# Altium integrated library Linear Technology Operational Amplifiers (LT2000-LT6000).IntLib: 1710 symbols (part 36 of 75)
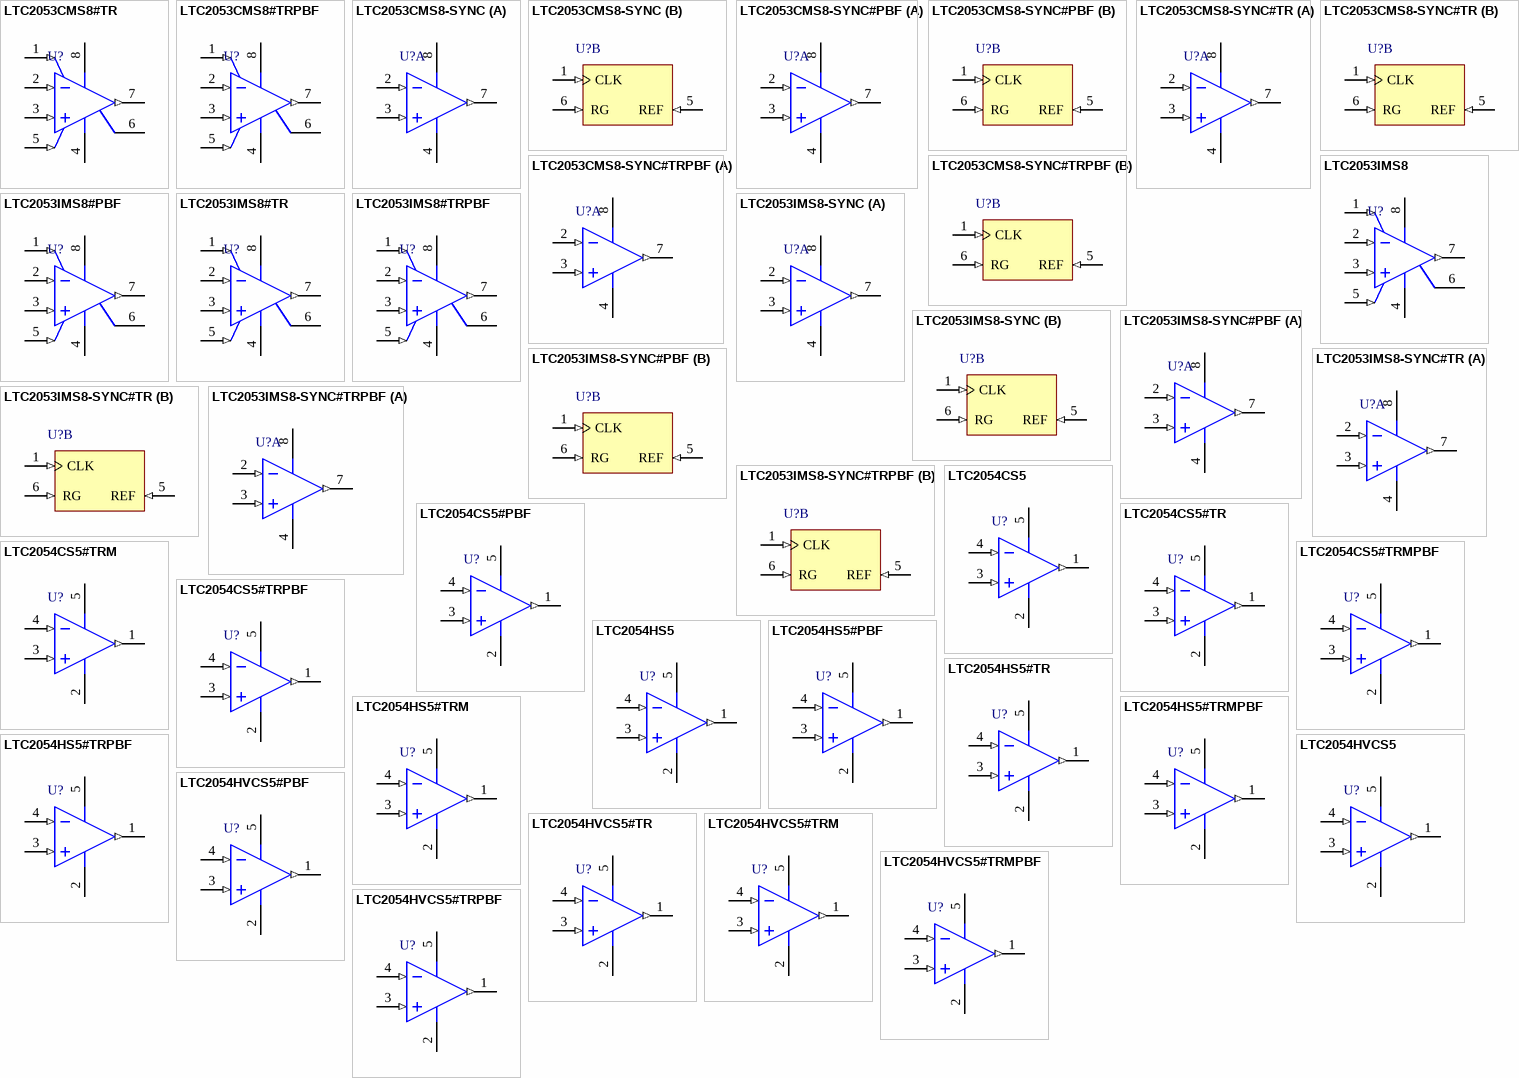
[diagram p115: symbols LTC2053CMS8#TR to LTC2054HVCS5#TRPBF]

## LTC2053IMS8#TRPBF
designator U?
Single Channel, Precision, Rail-to-Rail, Zero-Drift, Resistor-Programmable Instrumentation Amplifier, 0.2 MHz Typical GBW, 0.2 V/us Typical SR, 2.7 to 11 V, 8-Pin SOP (MS8-8), Industrial, Pb-Free, Reel; Linear Technology Part Number: LTC2053; Manufacturer: Linear Technology; PartNumber: LTC2053IMS8#TRPBF; Channels (#): 1; GBW (MHz) Typical: 0.2; Is (mA) Typical: 0.95; Vos (mV) Typical: 0.005; Vs Max (V): 11; Vs Min (V): 2.7; DatasheetVersion: Rev. C; PackageVersion: Rev G; PackageReference: LT-MS8-8; PackageDescription: 8-Lead Plastic Small Outline, Body 3.9 x 4.9 mm, Pitch 1.27 mm; Supplier 1: Digi-Key; Supplier Part Number 1: LTC2053IMS8#TRPBF-ND; Supplier 2: Newark; Supplier Part Number 2: 56M4736; Packing: Reel; RoHS: Pb-Free; SR (V/us) Typical: 0.2; Type: ZD, IA; Mounting Technology: Surface Mount; ComponentLink1Description: Manufacturer URL; ComponentLink1URL: http://www.linear.com/; ComponentLink2Description: Datasheet; ComponentLink2URL: http://cds.linear.com/docs/en/datasheet/2053syncfc.pdf; ComponentLink3Description: Package Specification; ComponentLink3URL: http://cds.linear.com/docs/en/packaging/05081610_G_SO8.pdf
footprint LT-MS8-8_N (SOP, 8-Leads, Body 3x3mm, Pitch 0.65mm, IPC Medium Density)
footprint LT-MS8-8_L (SOP, 8-Leads, Body 3x3mm, Pitch 0.65mm, IPC High Density)
footprint LT-MS8-8_M (SOP, 8-Leads, Body 3x3mm, Pitch 0.65mm, IPC Low Density)
pins: 1 ~{EN} (in) "Active Low Enable Pin.", 2 -IN (in) "Inverting Input.", 3 +IN (in) "Noninverting Input.", 4 V- (power) "Negative Supply.", 5 REF (in) "Voltage Reference (VREF) for Amplifier Output.", 6 RG "Inverting Input of Internal Op Amp.", 7 OUT (out) "Amplifier Output.", 8 V+ (power) "Positive Supply."

## LTC2053IMS8-SYNC
designator U?
Single Channel, Precision, Rail-to-Rail, Zero-Drift, Resistor-Programmable Instrumentation Amplifier, 0.2 MHz Typical GBW, 0.2 V/us Typical SR, 2.7 to 11 V, 8-Pin SOP (MS8-8), Industrial; Linear Technology Part Number: LTC2053-SYNC; Manufacturer: Linear Technology; PartNumber: LTC2053IMS8-SYNC; Channels (#): 1; GBW (MHz) Typical: 0.2; Is (mA) Typical: 0.95; Vos (mV) Typical: 0.005; Vs Max (V): 11; Vs Min (V): 2.7; DatasheetVersion: Rev. C; PackageVersion: Rev G; PackageReference: LT-MS8-8; PackageDescription: 8-Lead Plastic Small Outline, Body 3.9 x 4.9 mm, Pitch 1.27 mm; SR (V/us) Typical: 0.2; Type: ZD, IA; Mounting Technology: Surface Mount; ComponentLink1Description: Manufacturer URL; ComponentLink1URL: http://www.linear.com/; ComponentLink2Description: Datasheet; ComponentLink2URL: http://cds.linear.com/docs/en/datasheet/2053syncfc.pdf; ComponentLink3Description: Package Specification; ComponentLink3URL: http://cds.linear.com/docs/en/packaging/05081610_G_SO8.pdf
footprint LT-MS8-8_N (SOP, 8-Leads, Body 3x3mm, Pitch 0.65mm, IPC Medium Density)
footprint LT-MS8-8_L (SOP, 8-Leads, Body 3x3mm, Pitch 0.65mm, IPC High Density)
footprint LT-MS8-8_M (SOP, 8-Leads, Body 3x3mm, Pitch 0.65mm, IPC Low Density)
part A pins: 2 -IN (in) "Inverting Input", 3 +IN (in) "Noninverting Input.", 4 V- (power) "Negative Supply.", 7 OUT (out) "Amplifier Output.", 8 V+ (power) "Positive Supply."
part B pins: 1 CLK (in) "Clock input for Synchronizing to External System Clock.", 5 REF (in) "Voltage Reference (VREF) for Amplifier Output", 6 RG (in) "Inverting Input of Internal Op Amp"

## LTC2053IMS8-SYNC#PBF
designator U?
Single Channel, Precision, Rail-to-Rail, Zero-Drift, Resistor-Programmable Instrumentation Amplifier, 0.2 MHz Typical GBW, 0.2 V/us Typical SR, 2.7 to 11 V, 8-Pin SOP (MS8-8), Industrial, Pb-Free; Linear Technology Part Number: LTC2053-SYNC; Manufacturer: Linear Technology; PartNumber: LTC2053IMS8-SYNC#PBF; Channels (#): 1; GBW (MHz) Typical: 0.2; Is (mA) Typical: 0.95; Vos (mV) Typical: 0.005; Vs Max (V): 11; Vs Min (V): 2.7; DatasheetVersion: Rev. C; PackageVersion: Rev G; PackageReference: LT-MS8-8; PackageDescription: 8-Lead Plastic Small Outline, Body 3.9 x 4.9 mm, Pitch 1.27 mm; Supplier 1: Digi-Key; Supplier Part Number 1: LTC2053IMS8-SYNC#PBF-ND; RoHS: Pb-Free; SR (V/us) Typical: 0.2; Type: ZD, IA; Mounting Technology: Surface Mount; ComponentLink1Description: Manufacturer URL; ComponentLink1URL: http://www.linear.com/; ComponentLink2Description: Datasheet; ComponentLink2URL: http://cds.linear.com/docs/en/datasheet/2053syncfc.pdf; ComponentLink3Description: Package Specification; ComponentLink3URL: http://cds.linear.com/docs/en/packaging/05081610_G_SO8.pdf
footprint LT-MS8-8_N (SOP, 8-Leads, Body 3x3mm, Pitch 0.65mm, IPC Medium Density)
footprint LT-MS8-8_L (SOP, 8-Leads, Body 3x3mm, Pitch 0.65mm, IPC High Density)
footprint LT-MS8-8_M (SOP, 8-Leads, Body 3x3mm, Pitch 0.65mm, IPC Low Density)
part A pins: 2 -IN (in) "Inverting Input", 3 +IN (in) "Noninverting Input.", 4 V- (power) "Negative Supply.", 7 OUT (out) "Amplifier Output.", 8 V+ (power) "Positive Supply."
part B pins: 1 CLK (in) "Clock input for Synchronizing to External System Clock.", 5 REF (in) "Voltage Reference (VREF) for Amplifier Output", 6 RG (in) "Inverting Input of Internal Op Amp"

## LTC2053IMS8-SYNC#TR
designator U?
Single Channel, Precision, Rail-to-Rail, Zero-Drift, Resistor-Programmable Instrumentation Amplifier, 0.2 MHz Typical GBW, 0.2 V/us Typical SR, 2.7 to 11 V, 8-Pin SOP (MS8-8), Industrial, Reel; Linear Technology Part Number: LTC2053-SYNC; Manufacturer: Linear Technology; PartNumber: LTC2053IMS8-SYNC#TR; Channels (#): 1; GBW (MHz) Typical: 0.2; Is (mA) Typical: 0.95; Vos (mV) Typical: 0.005; Vs Max (V): 11; Vs Min (V): 2.7; DatasheetVersion: Rev. C; PackageVersion: Rev G; PackageReference: LT-MS8-8; PackageDescription: 8-Lead Plastic Small Outline, Body 3.9 x 4.9 mm, Pitch 1.27 mm; Packing: Reel; SR (V/us) Typical: 0.2; Type: ZD, IA; Mounting Technology: Surface Mount; ComponentLink1Description: Manufacturer URL; ComponentLink1URL: http://www.linear.com/; ComponentLink2Description: Datasheet; ComponentLink2URL: http://cds.linear.com/docs/en/datasheet/2053syncfc.pdf; ComponentLink3Description: Package Specification; ComponentLink3URL: http://cds.linear.com/docs/en/packaging/05081610_G_SO8.pdf
footprint LT-MS8-8_N (SOP, 8-Leads, Body 3x3mm, Pitch 0.65mm, IPC Medium Density)
footprint LT-MS8-8_L (SOP, 8-Leads, Body 3x3mm, Pitch 0.65mm, IPC High Density)
footprint LT-MS8-8_M (SOP, 8-Leads, Body 3x3mm, Pitch 0.65mm, IPC Low Density)
part A pins: 2 -IN (in) "Inverting Input", 3 +IN (in) "Noninverting Input.", 4 V- (power) "Negative Supply.", 7 OUT (out) "Amplifier Output.", 8 V+ (power) "Positive Supply."
part B pins: 1 CLK (in) "Clock input for Synchronizing to External System Clock.", 5 REF (in) "Voltage Reference (VREF) for Amplifier Output", 6 RG (in) "Inverting Input of Internal Op Amp"

## LTC2053IMS8-SYNC#TRPBF
designator U?
Single Channel, Precision, Rail-to-Rail, Zero-Drift, Resistor-Programmable Instrumentation Amplifier, 0.2 MHz Typical GBW, 0.2 V/us Typical SR, 2.7 to 11 V, 8-Pin SOP (MS8-8), Industrial, Pb-Free, Reel; Linear Technology Part Number: LTC2053-SYNC; Manufacturer: Linear Technology; PartNumber: LTC2053IMS8-SYNC#TRPBF; Channels (#): 1; GBW (MHz) Typical: 0.2; Is (mA) Typical: 0.95; Vos (mV) Typical: 0.005; Vs Max (V): 11; Vs Min (V): 2.7; DatasheetVersion: Rev. C; PackageVersion: Rev G; PackageReference: LT-MS8-8; PackageDescription: 8-Lead Plastic Small Outline, Body 3.9 x 4.9 mm, Pitch 1.27 mm; Supplier 1: Digi-Key; Supplier Part Number 1: LTC2053IMS8-SYNC#TRPBF-ND; Packing: Reel; RoHS: Pb-Free; SR (V/us) Typical: 0.2; Type: ZD, IA; Mounting Technology: Surface Mount; ComponentLink1Description: Manufacturer URL; ComponentLink1URL: http://www.linear.com/; ComponentLink2Description: Datasheet; ComponentLink2URL: http://cds.linear.com/docs/en/datasheet/2053syncfc.pdf; ComponentLink3Description: Package Specification; ComponentLink3URL: http://cds.linear.com/docs/en/packaging/05081610_G_SO8.pdf
footprint LT-MS8-8_N (SOP, 8-Leads, Body 3x3mm, Pitch 0.65mm, IPC Medium Density)
footprint LT-MS8-8_L (SOP, 8-Leads, Body 3x3mm, Pitch 0.65mm, IPC High Density)
footprint LT-MS8-8_M (SOP, 8-Leads, Body 3x3mm, Pitch 0.65mm, IPC Low Density)
part A pins: 2 -IN (in) "Inverting Input", 3 +IN (in) "Noninverting Input.", 4 V- (power) "Negative Supply.", 7 OUT (out) "Amplifier Output.", 8 V+ (power) "Positive Supply."
part B pins: 1 CLK (in) "Clock input for Synchronizing to External System Clock.", 5 REF (in) "Voltage Reference (VREF) for Amplifier Output", 6 RG (in) "Inverting Input of Internal Op Amp"

## LTC2054CS5
designator U?
Single Channel, Micropower Zero-Drift Operational Amplifier, 0.5 MHz Typical GBW, 0.5 V/us Typical SR, 2.7 to 6 V, 5-Pin SOT23 (S5-5), Commercial; Linear Technology Part Number: LTC2054; Manufacturer: Linear Technology; PartNumber: LTC2054CS5; Channels (#): 1; GBW (MHz) Typical: 0.5; Is (mA) Typical: 0.15; Vos (mV) Typical: 0.0005; Vs Max (V): 6; Vs Min (V): 2.7; DatasheetVersion: Rev. C; PackageReference: LT-S5-5-TSOT-23; PackageDescription: 5-Lead Plastic TSOT-23, Body 1.63 x 2.90 mm, Pitch 0.95 mm; SR (V/us) Typical: 0.5; Type: ZD; Mounting Technology: Surface Mount; Code_JEDEC: MO-193; ComponentLink1Description: Manufacturer URL; ComponentLink1URL: http://www.linear.com/; ComponentLink2Description: Datasheet; ComponentLink2URL: http://cds.linear.com/docs/en/datasheet/20545fc.pdf; ComponentLink3Description: Package Specification; ComponentLink3URL: http://cds.linear.com/docs/en/packaging/SOT_5_05-08-1635.pdf
footprint LT-S5-5-TSOT-23_N (SOT23, 5-Leads, Body 2.90x1.63mm, Pitch 0.95mm, IPC Medium Density)
footprint LT-S5-5-TSOT-23_L (SOT23, 5-Leads, Body 2.90x1.63mm, Pitch 0.95mm, IPC High Density)
footprint LT-S5-5-TSOT-23_M (SOT23, 5-Leads, Body 2.90x1.63mm, Pitch 0.95mm, IPC Low Density)
pins: 1 OUT (out) "Output.", 2 V- (power) "Negative Supply Voltage, Usually -5V.", 3 +IN (in) "Noninverting Input.", 4 -IN (in) "Inverting Input.", 5 V+ (power) "Positive Supply Voltage, Usually 5V."

## LTC2054CS5#PBF
designator U?
Single Channel, Micropower Zero-Drift Operational Amplifier, 0.5 MHz Typical GBW, 0.5 V/us Typical SR, 2.7 to 6 V, 5-Pin SOT23 (S5-5), Commercial, Pb-Free; Linear Technology Part Number: LTC2054; Manufacturer: Linear Technology; PartNumber: LTC2054CS5#PBF; Channels (#): 1; GBW (MHz) Typical: 0.5; Is (mA) Typical: 0.15; Vos (mV) Typical: 0.0005; Vs Max (V): 6; Vs Min (V): 2.7; DatasheetVersion: Rev. C; PackageReference: LT-S5-5-TSOT-23; PackageDescription: 5-Lead Plastic TSOT-23, Body 1.63 x 2.90 mm, Pitch 0.95 mm; Supplier 1: Farnell; Supplier Part Number 1: 2308104; Supplier 2: Newark; Supplier Part Number 2: 78T2545; RoHS: Pb-Free; SR (V/us) Typical: 0.5; Type: ZD; Mounting Technology: Surface Mount; Code_JEDEC: MO-193; ComponentLink1Description: Manufacturer URL; ComponentLink1URL: http://www.linear.com/; ComponentLink2Description: Datasheet; ComponentLink2URL: http://cds.linear.com/docs/en/datasheet/20545fc.pdf; ComponentLink3Description: Package Specification; ComponentLink3URL: http://cds.linear.com/docs/en/packaging/SOT_5_05-08-1635.pdf
footprint LT-S5-5-TSOT-23_N (SOT23, 5-Leads, Body 2.90x1.63mm, Pitch 0.95mm, IPC Medium Density)
footprint LT-S5-5-TSOT-23_L (SOT23, 5-Leads, Body 2.90x1.63mm, Pitch 0.95mm, IPC High Density)
footprint LT-S5-5-TSOT-23_M (SOT23, 5-Leads, Body 2.90x1.63mm, Pitch 0.95mm, IPC Low Density)
pins: 1 OUT (out) "Output.", 2 V- (power) "Negative Supply Voltage, Usually -5V.", 3 +IN (in) "Noninverting Input.", 4 -IN (in) "Inverting Input.", 5 V+ (power) "Positive Supply Voltage, Usually 5V."

## LTC2054CS5#TR
designator U?
Single Channel, Micropower Zero-Drift Operational Amplifier, 0.5 MHz Typical GBW, 0.5 V/us Typical SR, 2.7 to 6 V, 5-Pin SOT23 (S5-5), Commercial, Reel; Linear Technology Part Number: LTC2054; Manufacturer: Linear Technology; PartNumber: LTC2054CS5#TR; Channels (#): 1; GBW (MHz) Typical: 0.5; Is (mA) Typical: 0.15; Vos (mV) Typical: 0.0005; Vs Max (V): 6; Vs Min (V): 2.7; DatasheetVersion: Rev. C; PackageReference: LT-S5-5-TSOT-23; PackageDescription: 5-Lead Plastic TSOT-23, Body 1.63 x 2.90 mm, Pitch 0.95 mm; Supplier 1: Digi-Key; Supplier Part Number 1: LTC2054CS5#TR-ND; Supplier 2: Newark; Supplier Part Number 2: 56M4737; Packing: Reel; SR (V/us) Typical: 0.5; Type: ZD; Mounting Technology: Surface Mount; Code_JEDEC: MO-193; ComponentLink1Description: Manufacturer URL; ComponentLink1URL: http://www.linear.com/; ComponentLink2Description: Datasheet; ComponentLink2URL: http://cds.linear.com/docs/en/datasheet/20545fc.pdf; ComponentLink3Description: Package Specification; ComponentLink3URL: http://cds.linear.com/docs/en/packaging/SOT_5_05-08-1635.pdf
footprint LT-S5-5-TSOT-23_N (SOT23, 5-Leads, Body 2.90x1.63mm, Pitch 0.95mm, IPC Medium Density)
footprint LT-S5-5-TSOT-23_L (SOT23, 5-Leads, Body 2.90x1.63mm, Pitch 0.95mm, IPC High Density)
footprint LT-S5-5-TSOT-23_M (SOT23, 5-Leads, Body 2.90x1.63mm, Pitch 0.95mm, IPC Low Density)
pins: 1 OUT (out) "Output.", 2 V- (power) "Negative Supply Voltage, Usually -5V.", 3 +IN (in) "Noninverting Input.", 4 -IN (in) "Inverting Input.", 5 V+ (power) "Positive Supply Voltage, Usually 5V."

## LTC2054CS5#TRM
designator U?
Single Channel, Micropower Zero-Drift Operational Amplifier, 0.5 MHz Typical GBW, 0.5 V/us Typical SR, 2.7 to 6 V, 5-Pin SOT23 (S5-5), Commercial, Mini Reel; Linear Technology Part Number: LTC2054; Manufacturer: Linear Technology; PartNumber: LTC2054CS5#TRM; Channels (#): 1; GBW (MHz) Typical: 0.5; Is (mA) Typical: 0.15; Vos (mV) Typical: 0.0005; Vs Max (V): 6; Vs Min (V): 2.7; DatasheetVersion: Rev. C; PackageReference: LT-S5-5-TSOT-23; PackageDescription: 5-Lead Plastic TSOT-23, Body 1.63 x 2.90 mm, Pitch 0.95 mm; Supplier 1: Digi-Key; Supplier Part Number 1: LTC2054CS5#TRM-ND; Packing: Mini Reel; SR (V/us) Typical: 0.5; Type: ZD; Mounting Technology: Surface Mount; Code_JEDEC: MO-193; ComponentLink1Description: Manufacturer URL; ComponentLink1URL: http://www.linear.com/; ComponentLink2Description: Datasheet; ComponentLink2URL: http://cds.linear.com/docs/en/datasheet/20545fc.pdf; ComponentLink3Description: Package Specification; ComponentLink3URL: http://cds.linear.com/docs/en/packaging/SOT_5_05-08-1635.pdf
footprint LT-S5-5-TSOT-23_N (SOT23, 5-Leads, Body 2.90x1.63mm, Pitch 0.95mm, IPC Medium Density)
footprint LT-S5-5-TSOT-23_L (SOT23, 5-Leads, Body 2.90x1.63mm, Pitch 0.95mm, IPC High Density)
footprint LT-S5-5-TSOT-23_M (SOT23, 5-Leads, Body 2.90x1.63mm, Pitch 0.95mm, IPC Low Density)
pins: 1 OUT (out) "Output.", 2 V- (power) "Negative Supply Voltage, Usually -5V.", 3 +IN (in) "Noninverting Input.", 4 -IN (in) "Inverting Input.", 5 V+ (power) "Positive Supply Voltage, Usually 5V."

## LTC2054CS5#TRMPBF
designator U?
Single Channel, Micropower Zero-Drift Operational Amplifier, 0.5 MHz Typical GBW, 0.5 V/us Typical SR, 2.7 to 6 V, 5-Pin SOT23 (S5-5), Commercial, Pb-Free, Mini Reel; Linear Technology Part Number: LTC2054; Manufacturer: Linear Technology; PartNumber: LTC2054CS5#TRMPBF; Channels (#): 1; GBW (MHz) Typical: 0.5; Is (mA) Typical: 0.15; Vos (mV) Typical: 0.0005; Vs Max (V): 6; Vs Min (V): 2.7; DatasheetVersion: Rev. C; PackageReference: LT-S5-5-TSOT-23; PackageDescription: 5-Lead Plastic TSOT-23, Body 1.63 x 2.90 mm, Pitch 0.95 mm; Supplier 1: Digi-Key; Supplier Part Number 1: LTC2054CS5#TRMPBFTR-ND; Supplier 2: Digi-Key; Supplier Part Number 2: LTC2054CS5#TRMPBFCT-ND; Supplier 3: Digi-Key; Supplier Part Number 3: LTC2054CS5#TRMPBFDKR-ND; Supplier 4: Farnell; Supplier Part Number 4: 1663877RL; Supplier 5: Farnell; Supplier Part Number 5: 1663877; Supplier 6: Newark; Supplier Part Number 6: 56M4739; Packing: Mini Reel; RoHS: Pb-Free; SR (V/us) Typical: 0.5; Type: ZD; Mounting Technology: Surface Mount; Code_JEDEC: MO-193; ComponentLink1Description: Manufacturer URL; ComponentLink1URL: http://www.linear.com/; ComponentLink2Description: Datasheet; ComponentLink2URL: http://cds.linear.com/docs/en/datasheet/20545fc.pdf; ComponentLink3Description: Package Specification; ComponentLink3URL: http://cds.linear.com/docs/en/packaging/SOT_5_05-08-1635.pdf
footprint LT-S5-5-TSOT-23_N (SOT23, 5-Leads, Body 2.90x1.63mm, Pitch 0.95mm, IPC Medium Density)
footprint LT-S5-5-TSOT-23_L (SOT23, 5-Leads, Body 2.90x1.63mm, Pitch 0.95mm, IPC High Density)
footprint LT-S5-5-TSOT-23_M (SOT23, 5-Leads, Body 2.90x1.63mm, Pitch 0.95mm, IPC Low Density)
pins: 1 OUT (out) "Output.", 2 V- (power) "Negative Supply Voltage, Usually -5V.", 3 +IN (in) "Noninverting Input.", 4 -IN (in) "Inverting Input.", 5 V+ (power) "Positive Supply Voltage, Usually 5V."

## LTC2054CS5#TRPBF
designator U?
Single Channel, Micropower Zero-Drift Operational Amplifier, 0.5 MHz Typical GBW, 0.5 V/us Typical SR, 2.7 to 6 V, 5-Pin SOT23 (S5-5), Commercial, Pb-Free, Reel; Linear Technology Part Number: LTC2054; Manufacturer: Linear Technology; PartNumber: LTC2054CS5#TRPBF; Channels (#): 1; GBW (MHz) Typical: 0.5; Is (mA) Typical: 0.15; Vos (mV) Typical: 0.0005; Vs Max (V): 6; Vs Min (V): 2.7; DatasheetVersion: Rev. C; PackageReference: LT-S5-5-TSOT-23; PackageDescription: 5-Lead Plastic TSOT-23, Body 1.63 x 2.90 mm, Pitch 0.95 mm; Supplier 1: Digi-Key; Supplier Part Number 1: LTC2054CS5#TRPBF-ND; Supplier 2: Newark; Supplier Part Number 2: 56M4740; Packing: Reel; RoHS: Pb-Free; SR (V/us) Typical: 0.5; Type: ZD; Mounting Technology: Surface Mount; Code_JEDEC: MO-193; ComponentLink1Description: Manufacturer URL; ComponentLink1URL: http://www.linear.com/; ComponentLink2Description: Datasheet; ComponentLink2URL: http://cds.linear.com/docs/en/datasheet/20545fc.pdf; ComponentLink3Description: Package Specification; ComponentLink3URL: http://cds.linear.com/docs/en/packaging/SOT_5_05-08-1635.pdf
footprint LT-S5-5-TSOT-23_N (SOT23, 5-Leads, Body 2.90x1.63mm, Pitch 0.95mm, IPC Medium Density)
footprint LT-S5-5-TSOT-23_L (SOT23, 5-Leads, Body 2.90x1.63mm, Pitch 0.95mm, IPC High Density)
footprint LT-S5-5-TSOT-23_M (SOT23, 5-Leads, Body 2.90x1.63mm, Pitch 0.95mm, IPC Low Density)
pins: 1 OUT (out) "Output.", 2 V- (power) "Negative Supply Voltage, Usually -5V.", 3 +IN (in) "Noninverting Input.", 4 -IN (in) "Inverting Input.", 5 V+ (power) "Positive Supply Voltage, Usually 5V."

## LTC2054HS5
designator U?
Single Channel, Micropower Zero-Drift Operational Amplifier, 0.5 MHz Typical GBW, 0.5 V/us Typical SR, 2.7 to 6 V, 5-Pin SOT23 (S5-5), High Temperature / Automotive; Linear Technology Part Number: LTC2054; Manufacturer: Linear Technology; PartNumber: LTC2054HS5; Channels (#): 1; GBW (MHz) Typical: 0.5; Is (mA) Typical: 0.15; Vos (mV) Typical: 0.0005; Vs Max (V): 6; Vs Min (V): 2.7; DatasheetVersion: Rev. C; PackageReference: LT-S5-5-TSOT-23; PackageDescription: 5-Lead Plastic TSOT-23, Body 1.63 x 2.90 mm, Pitch 0.95 mm; SR (V/us) Typical: 0.5; Type: ZD; Mounting Technology: Surface Mount; Code_JEDEC: MO-193; ComponentLink1Description: Manufacturer URL; ComponentLink1URL: http://www.linear.com/; ComponentLink2Description: Datasheet; ComponentLink2URL: http://cds.linear.com/docs/en/datasheet/20545fc.pdf; ComponentLink3Description: Package Specification; ComponentLink3URL: http://cds.linear.com/docs/en/packaging/SOT_5_05-08-1635.pdf
footprint LT-S5-5-TSOT-23_N (SOT23, 5-Leads, Body 2.90x1.63mm, Pitch 0.95mm, IPC Medium Density)
footprint LT-S5-5-TSOT-23_L (SOT23, 5-Leads, Body 2.90x1.63mm, Pitch 0.95mm, IPC High Density)
footprint LT-S5-5-TSOT-23_M (SOT23, 5-Leads, Body 2.90x1.63mm, Pitch 0.95mm, IPC Low Density)
pins: 1 OUT (out) "Output.", 2 V- (power) "Negative Supply Voltage, Usually -5V.", 3 +IN (in) "Noninverting Input.", 4 -IN (in) "Inverting Input.", 5 V+ (power) "Positive Supply Voltage, Usually 5V."

## LTC2054HS5#PBF
designator U?
Single Channel, Micropower Zero-Drift Operational Amplifier, 0.5 MHz Typical GBW, 0.5 V/us Typical SR, 2.7 to 6 V, 5-Pin SOT23 (S5-5), High Temperature / Automotive, Pb-Free; Linear Technology Part Number: LTC2054; Manufacturer: Linear Technology; PartNumber: LTC2054HS5#PBF; Channels (#): 1; GBW (MHz) Typical: 0.5; Is (mA) Typical: 0.15; Vos (mV) Typical: 0.0005; Vs Max (V): 6; Vs Min (V): 2.7; DatasheetVersion: Rev. C; PackageReference: LT-S5-5-TSOT-23; PackageDescription: 5-Lead Plastic TSOT-23, Body 1.63 x 2.90 mm, Pitch 0.95 mm; Supplier 1: Farnell; Supplier Part Number 1: 2294730; Supplier 2: Newark; Supplier Part Number 2: 78T2546; RoHS: Pb-Free; SR (V/us) Typical: 0.5; Type: ZD; Mounting Technology: Surface Mount; Code_JEDEC: MO-193; ComponentLink1Description: Manufacturer URL; ComponentLink1URL: http://www.linear.com/; ComponentLink2Description: Datasheet; ComponentLink2URL: http://cds.linear.com/docs/en/datasheet/20545fc.pdf; ComponentLink3Description: Package Specification; ComponentLink3URL: http://cds.linear.com/docs/en/packaging/SOT_5_05-08-1635.pdf
footprint LT-S5-5-TSOT-23_N (SOT23, 5-Leads, Body 2.90x1.63mm, Pitch 0.95mm, IPC Medium Density)
footprint LT-S5-5-TSOT-23_L (SOT23, 5-Leads, Body 2.90x1.63mm, Pitch 0.95mm, IPC High Density)
footprint LT-S5-5-TSOT-23_M (SOT23, 5-Leads, Body 2.90x1.63mm, Pitch 0.95mm, IPC Low Density)
pins: 1 OUT (out) "Output.", 2 V- (power) "Negative Supply Voltage, Usually -5V.", 3 +IN (in) "Noninverting Input.", 4 -IN (in) "Inverting Input.", 5 V+ (power) "Positive Supply Voltage, Usually 5V."

## LTC2054HS5#TR
designator U?
Single Channel, Micropower Zero-Drift Operational Amplifier, 0.5 MHz Typical GBW, 0.5 V/us Typical SR, 2.7 to 6 V, 5-Pin SOT23 (S5-5), High Temperature / Automotive, Reel; Linear Technology Part Number: LTC2054; Manufacturer: Linear Technology; PartNumber: LTC2054HS5#TR; Channels (#): 1; GBW (MHz) Typical: 0.5; Is (mA) Typical: 0.15; Vos (mV) Typical: 0.0005; Vs Max (V): 6; Vs Min (V): 2.7; DatasheetVersion: Rev. C; PackageReference: LT-S5-5-TSOT-23; PackageDescription: 5-Lead Plastic TSOT-23, Body 1.63 x 2.90 mm, Pitch 0.95 mm; Supplier 1: Digi-Key; Supplier Part Number 1: LTC2054HS5#TR-ND; Packing: Reel; SR (V/us) Typical: 0.5; Type: ZD; Mounting Technology: Surface Mount; Code_JEDEC: MO-193; ComponentLink1Description: Manufacturer URL; ComponentLink1URL: http://www.linear.com/; ComponentLink2Description: Datasheet; ComponentLink2URL: http://cds.linear.com/docs/en/datasheet/20545fc.pdf; ComponentLink3Description: Package Specification; ComponentLink3URL: http://cds.linear.com/docs/en/packaging/SOT_5_05-08-1635.pdf
footprint LT-S5-5-TSOT-23_N (SOT23, 5-Leads, Body 2.90x1.63mm, Pitch 0.95mm, IPC Medium Density)
footprint LT-S5-5-TSOT-23_L (SOT23, 5-Leads, Body 2.90x1.63mm, Pitch 0.95mm, IPC High Density)
footprint LT-S5-5-TSOT-23_M (SOT23, 5-Leads, Body 2.90x1.63mm, Pitch 0.95mm, IPC Low Density)
pins: 1 OUT (out) "Output.", 2 V- (power) "Negative Supply Voltage, Usually -5V.", 3 +IN (in) "Noninverting Input.", 4 -IN (in) "Inverting Input.", 5 V+ (power) "Positive Supply Voltage, Usually 5V."

## LTC2054HS5#TRM
designator U?
Single Channel, Micropower Zero-Drift Operational Amplifier, 0.5 MHz Typical GBW, 0.5 V/us Typical SR, 2.7 to 6 V, 5-Pin SOT23 (S5-5), High Temperature / Automotive, Mini Reel; Linear Technology Part Number: LTC2054; Manufacturer: Linear Technology; PartNumber: LTC2054HS5#TRM; Channels (#): 1; GBW (MHz) Typical: 0.5; Is (mA) Typical: 0.15; Vos (mV) Typical: 0.0005; Vs Max (V): 6; Vs Min (V): 2.7; DatasheetVersion: Rev. C; PackageReference: LT-S5-5-TSOT-23; PackageDescription: 5-Lead Plastic TSOT-23, Body 1.63 x 2.90 mm, Pitch 0.95 mm; Supplier 1: Digi-Key; Supplier Part Number 1: LTC2054HS5#TRM-ND; Packing: Mini Reel; SR (V/us) Typical: 0.5; Type: ZD; Mounting Technology: Surface Mount; Code_JEDEC: MO-193; ComponentLink1Description: Manufacturer URL; ComponentLink1URL: http://www.linear.com/; ComponentLink2Description: Datasheet; ComponentLink2URL: http://cds.linear.com/docs/en/datasheet/20545fc.pdf; ComponentLink3Description: Package Specification; ComponentLink3URL: http://cds.linear.com/docs/en/packaging/SOT_5_05-08-1635.pdf
footprint LT-S5-5-TSOT-23_N (SOT23, 5-Leads, Body 2.90x1.63mm, Pitch 0.95mm, IPC Medium Density)
footprint LT-S5-5-TSOT-23_L (SOT23, 5-Leads, Body 2.90x1.63mm, Pitch 0.95mm, IPC High Density)
footprint LT-S5-5-TSOT-23_M (SOT23, 5-Leads, Body 2.90x1.63mm, Pitch 0.95mm, IPC Low Density)
pins: 1 OUT (out) "Output.", 2 V- (power) "Negative Supply Voltage, Usually -5V.", 3 +IN (in) "Noninverting Input.", 4 -IN (in) "Inverting Input.", 5 V+ (power) "Positive Supply Voltage, Usually 5V."

## LTC2054HS5#TRMPBF
designator U?
Single Channel, Micropower Zero-Drift Operational Amplifier, 0.5 MHz Typical GBW, 0.5 V/us Typical SR, 2.7 to 6 V, 5-Pin SOT23 (S5-5), High Temperature / Automotive, Pb-Free, Mini Reel; Linear Technology Part Number: LTC2054; Manufacturer: Linear Technology; PartNumber: LTC2054HS5#TRMPBF; Channels (#): 1; GBW (MHz) Typical: 0.5; Is (mA) Typical: 0.15; Vos (mV) Typical: 0.0005; Vs Max (V): 6; Vs Min (V): 2.7; DatasheetVersion: Rev. C; PackageReference: LT-S5-5-TSOT-23; PackageDescription: 5-Lead Plastic TSOT-23, Body 1.63 x 2.90 mm, Pitch 0.95 mm; Supplier 1: Digi-Key; Supplier Part Number 1: LTC2054HS5#TRMPBFTR-ND; Supplier 2: Digi-Key; Supplier Part Number 2: LTC2054HS5#TRMPBFCT-ND; Supplier 3: Digi-Key; Supplier Part Number 3: LTC2054HS5#TRMPBFDKR-ND; Supplier 4: Newark; Supplier Part Number 4: 56M4743; Packing: Mini Reel; RoHS: Pb-Free; SR (V/us) Typical: 0.5; Type: ZD; Mounting Technology: Surface Mount; Code_JEDEC: MO-193; ComponentLink1Description: Manufacturer URL; ComponentLink1URL: http://www.linear.com/; ComponentLink2Description: Datasheet; ComponentLink2URL: http://cds.linear.com/docs/en/datasheet/20545fc.pdf; ComponentLink3Description: Package Specification; ComponentLink3URL: http://cds.linear.com/docs/en/packaging/SOT_5_05-08-1635.pdf
footprint LT-S5-5-TSOT-23_N (SOT23, 5-Leads, Body 2.90x1.63mm, Pitch 0.95mm, IPC Medium Density)
footprint LT-S5-5-TSOT-23_L (SOT23, 5-Leads, Body 2.90x1.63mm, Pitch 0.95mm, IPC High Density)
footprint LT-S5-5-TSOT-23_M (SOT23, 5-Leads, Body 2.90x1.63mm, Pitch 0.95mm, IPC Low Density)
pins: 1 OUT (out) "Output.", 2 V- (power) "Negative Supply Voltage, Usually -5V.", 3 +IN (in) "Noninverting Input.", 4 -IN (in) "Inverting Input.", 5 V+ (power) "Positive Supply Voltage, Usually 5V."

## LTC2054HS5#TRPBF
designator U?
Single Channel, Micropower Zero-Drift Operational Amplifier, 0.5 MHz Typical GBW, 0.5 V/us Typical SR, 2.7 to 6 V, 5-Pin SOT23 (S5-5), High Temperature / Automotive, Pb-Free, Reel; Linear Technology Part Number: LTC2054; Manufacturer: Linear Technology; PartNumber: LTC2054HS5#TRPBF; Channels (#): 1; GBW (MHz) Typical: 0.5; Is (mA) Typical: 0.15; Vos (mV) Typical: 0.0005; Vs Max (V): 6; Vs Min (V): 2.7; DatasheetVersion: Rev. C; PackageReference: LT-S5-5-TSOT-23; PackageDescription: 5-Lead Plastic TSOT-23, Body 1.63 x 2.90 mm, Pitch 0.95 mm; Supplier 1: Digi-Key; Supplier Part Number 1: LTC2054HS5#TRPBF-ND; Packing: Reel; RoHS: Pb-Free; SR (V/us) Typical: 0.5; Type: ZD; Mounting Technology: Surface Mount; Code_JEDEC: MO-193; ComponentLink1Description: Manufacturer URL; ComponentLink1URL: http://www.linear.com/; ComponentLink2Description: Datasheet; ComponentLink2URL: http://cds.linear.com/docs/en/datasheet/20545fc.pdf; ComponentLink3Description: Package Specification; ComponentLink3URL: http://cds.linear.com/docs/en/packaging/SOT_5_05-08-1635.pdf
footprint LT-S5-5-TSOT-23_N (SOT23, 5-Leads, Body 2.90x1.63mm, Pitch 0.95mm, IPC Medium Density)
footprint LT-S5-5-TSOT-23_L (SOT23, 5-Leads, Body 2.90x1.63mm, Pitch 0.95mm, IPC High Density)
footprint LT-S5-5-TSOT-23_M (SOT23, 5-Leads, Body 2.90x1.63mm, Pitch 0.95mm, IPC Low Density)
pins: 1 OUT (out) "Output.", 2 V- (power) "Negative Supply Voltage, Usually -5V.", 3 +IN (in) "Noninverting Input.", 4 -IN (in) "Inverting Input.", 5 V+ (power) "Positive Supply Voltage, Usually 5V."

## LTC2054HVCS5
designator U?
Single Channel, Micropower Zero-Drift Operational Amplifier, 0.5 MHz Typical GBW, 0.5 V/us Typical SR, 2.7 to 11 V, 5-Pin SOT23 (S5-5), Commercial; Linear Technology Part Number: LTC2054HV; Manufacturer: Linear Technology; PartNumber: LTC2054HVCS5; Channels (#): 1; GBW (MHz) Typical: 0.5; Is (mA) Typical: 0.15; Vos (mV) Typical: 0.0005; Vs Max (V): 11; Vs Min (V): 2.7; DatasheetVersion: Rev. C; PackageReference: LT-S5-5-TSOT-23; PackageDescription: 5-Lead Plastic TSOT-23, Body 1.63 x 2.90 mm, Pitch 0.95 mm; SR (V/us) Typical: 0.5; Type: ZD; Mounting Technology: Surface Mount; Code_JEDEC: MO-193; ComponentLink1Description: Manufacturer URL; ComponentLink1URL: http://www.linear.com/; ComponentLink2Description: Datasheet; ComponentLink2URL: http://cds.linear.com/docs/en/datasheet/20545fc.pdf; ComponentLink3Description: Package Specification; ComponentLink3URL: http://cds.linear.com/docs/en/packaging/SOT_5_05-08-1635.pdf
footprint LT-S5-5-TSOT-23_N (SOT23, 5-Leads, Body 2.90x1.63mm, Pitch 0.95mm, IPC Medium Density)
footprint LT-S5-5-TSOT-23_L (SOT23, 5-Leads, Body 2.90x1.63mm, Pitch 0.95mm, IPC High Density)
footprint LT-S5-5-TSOT-23_M (SOT23, 5-Leads, Body 2.90x1.63mm, Pitch 0.95mm, IPC Low Density)
pins: 1 OUT (out) "Output.", 2 V- (power) "Negative Supply Voltage, Usually -5V.", 3 +IN (in) "Noninverting Input.", 4 -IN (in) "Inverting Input.", 5 V+ (power) "Positive Supply Voltage, Usually 5V."

## LTC2054HVCS5#PBF
designator U?
Single Channel, Micropower Zero-Drift Operational Amplifier, 0.5 MHz Typical GBW, 0.5 V/us Typical SR, 2.7 to 11 V, 5-Pin SOT23 (S5-5), Commercial, Pb-Free; Linear Technology Part Number: LTC2054HV; Manufacturer: Linear Technology; PartNumber: LTC2054HVCS5#PBF; Channels (#): 1; GBW (MHz) Typical: 0.5; Is (mA) Typical: 0.15; Vos (mV) Typical: 0.0005; Vs Max (V): 11; Vs Min (V): 2.7; DatasheetVersion: Rev. C; PackageReference: LT-S5-5-TSOT-23; PackageDescription: 5-Lead Plastic TSOT-23, Body 1.63 x 2.90 mm, Pitch 0.95 mm; RoHS: Pb-Free; SR (V/us) Typical: 0.5; Type: ZD; Mounting Technology: Surface Mount; Code_JEDEC: MO-193; ComponentLink1Description: Manufacturer URL; ComponentLink1URL: http://www.linear.com/; ComponentLink2Description: Datasheet; ComponentLink2URL: http://cds.linear.com/docs/en/datasheet/20545fc.pdf; ComponentLink3Description: Package Specification; ComponentLink3URL: http://cds.linear.com/docs/en/packaging/SOT_5_05-08-1635.pdf
footprint LT-S5-5-TSOT-23_N (SOT23, 5-Leads, Body 2.90x1.63mm, Pitch 0.95mm, IPC Medium Density)
footprint LT-S5-5-TSOT-23_L (SOT23, 5-Leads, Body 2.90x1.63mm, Pitch 0.95mm, IPC High Density)
footprint LT-S5-5-TSOT-23_M (SOT23, 5-Leads, Body 2.90x1.63mm, Pitch 0.95mm, IPC Low Density)
pins: 1 OUT (out) "Output.", 2 V- (power) "Negative Supply Voltage, Usually -5V.", 3 +IN (in) "Noninverting Input.", 4 -IN (in) "Inverting Input.", 5 V+ (power) "Positive Supply Voltage, Usually 5V."

## LTC2054HVCS5#TR
designator U?
Single Channel, Micropower Zero-Drift Operational Amplifier, 0.5 MHz Typical GBW, 0.5 V/us Typical SR, 2.7 to 11 V, 5-Pin SOT23 (S5-5), Commercial, Reel; Linear Technology Part Number: LTC2054HV; Manufacturer: Linear Technology; PartNumber: LTC2054HVCS5#TR; Channels (#): 1; GBW (MHz) Typical: 0.5; Is (mA) Typical: 0.15; Vos (mV) Typical: 0.0005; Vs Max (V): 11; Vs Min (V): 2.7; DatasheetVersion: Rev. C; PackageReference: LT-S5-5-TSOT-23; PackageDescription: 5-Lead Plastic TSOT-23, Body 1.63 x 2.90 mm, Pitch 0.95 mm; Supplier 1: Digi-Key; Supplier Part Number 1: LTC2054HVCS5#TR-ND; Packing: Reel; SR (V/us) Typical: 0.5; Type: ZD; Mounting Technology: Surface Mount; Code_JEDEC: MO-193; ComponentLink1Description: Manufacturer URL; ComponentLink1URL: http://www.linear.com/; ComponentLink2Description: Datasheet; ComponentLink2URL: http://cds.linear.com/docs/en/datasheet/20545fc.pdf; ComponentLink3Description: Package Specification; ComponentLink3URL: http://cds.linear.com/docs/en/packaging/SOT_5_05-08-1635.pdf
footprint LT-S5-5-TSOT-23_N (SOT23, 5-Leads, Body 2.90x1.63mm, Pitch 0.95mm, IPC Medium Density)
footprint LT-S5-5-TSOT-23_L (SOT23, 5-Leads, Body 2.90x1.63mm, Pitch 0.95mm, IPC High Density)
footprint LT-S5-5-TSOT-23_M (SOT23, 5-Leads, Body 2.90x1.63mm, Pitch 0.95mm, IPC Low Density)
pins: 1 OUT (out) "Output.", 2 V- (power) "Negative Supply Voltage, Usually -5V.", 3 +IN (in) "Noninverting Input.", 4 -IN (in) "Inverting Input.", 5 V+ (power) "Positive Supply Voltage, Usually 5V."

## LTC2054HVCS5#TRM
designator U?
Single Channel, Micropower Zero-Drift Operational Amplifier, 0.5 MHz Typical GBW, 0.5 V/us Typical SR, 2.7 to 11 V, 5-Pin SOT23 (S5-5), Commercial, Mini Reel; Linear Technology Part Number: LTC2054HV; Manufacturer: Linear Technology; PartNumber: LTC2054HVCS5#TRM; Channels (#): 1; GBW (MHz) Typical: 0.5; Is (mA) Typical: 0.15; Vos (mV) Typical: 0.0005; Vs Max (V): 11; Vs Min (V): 2.7; DatasheetVersion: Rev. C; PackageReference: LT-S5-5-TSOT-23; PackageDescription: 5-Lead Plastic TSOT-23, Body 1.63 x 2.90 mm, Pitch 0.95 mm; Supplier 1: Digi-Key; Supplier Part Number 1: LTC2054HVCS5#TRM-ND; Packing: Mini Reel; SR (V/us) Typical: 0.5; Type: ZD; Mounting Technology: Surface Mount; Code_JEDEC: MO-193; ComponentLink1Description: Manufacturer URL; ComponentLink1URL: http://www.linear.com/; ComponentLink2Description: Datasheet; ComponentLink2URL: http://cds.linear.com/docs/en/datasheet/20545fc.pdf; ComponentLink3Description: Package Specification; ComponentLink3URL: http://cds.linear.com/docs/en/packaging/SOT_5_05-08-1635.pdf
footprint LT-S5-5-TSOT-23_N (SOT23, 5-Leads, Body 2.90x1.63mm, Pitch 0.95mm, IPC Medium Density)
footprint LT-S5-5-TSOT-23_L (SOT23, 5-Leads, Body 2.90x1.63mm, Pitch 0.95mm, IPC High Density)
footprint LT-S5-5-TSOT-23_M (SOT23, 5-Leads, Body 2.90x1.63mm, Pitch 0.95mm, IPC Low Density)
pins: 1 OUT (out) "Output.", 2 V- (power) "Negative Supply Voltage, Usually -5V.", 3 +IN (in) "Noninverting Input.", 4 -IN (in) "Inverting Input.", 5 V+ (power) "Positive Supply Voltage, Usually 5V."

## LTC2054HVCS5#TRMPBF
designator U?
Single Channel, Micropower Zero-Drift Operational Amplifier, 0.5 MHz Typical GBW, 0.5 V/us Typical SR, 2.7 to 11 V, 5-Pin SOT23 (S5-5), Commercial, Pb-Free, Mini Reel; Linear Technology Part Number: LTC2054HV; Manufacturer: Linear Technology; PartNumber: LTC2054HVCS5#TRMPBF; Channels (#): 1; GBW (MHz) Typical: 0.5; Is (mA) Typical: 0.15; Vos (mV) Typical: 0.0005; Vs Max (V): 11; Vs Min (V): 2.7; DatasheetVersion: Rev. C; PackageReference: LT-S5-5-TSOT-23; PackageDescription: 5-Lead Plastic TSOT-23, Body 1.63 x 2.90 mm, Pitch 0.95 mm; Supplier 1: Digi-Key; Supplier Part Number 1: LTC2054HVCS5#TRMPBF-ND; Supplier 2: Newark; Supplier Part Number 2: 56M4747; Packing: Mini Reel; RoHS: Pb-Free; SR (V/us) Typical: 0.5; Type: ZD; Mounting Technology: Surface Mount; Code_JEDEC: MO-193; ComponentLink1Description: Manufacturer URL; ComponentLink1URL: http://www.linear.com/; ComponentLink2Description: Datasheet; ComponentLink2URL: http://cds.linear.com/docs/en/datasheet/20545fc.pdf; ComponentLink3Description: Package Specification; ComponentLink3URL: http://cds.linear.com/docs/en/packaging/SOT_5_05-08-1635.pdf
footprint LT-S5-5-TSOT-23_N (SOT23, 5-Leads, Body 2.90x1.63mm, Pitch 0.95mm, IPC Medium Density)
footprint LT-S5-5-TSOT-23_L (SOT23, 5-Leads, Body 2.90x1.63mm, Pitch 0.95mm, IPC High Density)
footprint LT-S5-5-TSOT-23_M (SOT23, 5-Leads, Body 2.90x1.63mm, Pitch 0.95mm, IPC Low Density)
pins: 1 OUT (out) "Output.", 2 V- (power) "Negative Supply Voltage, Usually -5V.", 3 +IN (in) "Noninverting Input.", 4 -IN (in) "Inverting Input.", 5 V+ (power) "Positive Supply Voltage, Usually 5V."

## LTC2054HVCS5#TRPBF
designator U?
Single Channel, Micropower Zero-Drift Operational Amplifier, 0.5 MHz Typical GBW, 0.5 V/us Typical SR, 2.7 to 11 V, 5-Pin SOT23 (S5-5), Commercial, Pb-Free, Reel; Linear Technology Part Number: LTC2054HV; Manufacturer: Linear Technology; PartNumber: LTC2054HVCS5#TRPBF; Channels (#): 1; GBW (MHz) Typical: 0.5; Is (mA) Typical: 0.15; Vos (mV) Typical: 0.0005; Vs Max (V): 11; Vs Min (V): 2.7; DatasheetVersion: Rev. C; PackageReference: LT-S5-5-TSOT-23; PackageDescription: 5-Lead Plastic TSOT-23, Body 1.63 x 2.90 mm, Pitch 0.95 mm; Supplier 1: Digi-Key; Supplier Part Number 1: LTC2054HVCS5#TRPBF-ND; Packing: Reel; RoHS: Pb-Free; SR (V/us) Typical: 0.5; Type: ZD; Mounting Technology: Surface Mount; Code_JEDEC: MO-193; ComponentLink1Description: Manufacturer URL; ComponentLink1URL: http://www.linear.com/; ComponentLink2Description: Datasheet; ComponentLink2URL: http://cds.linear.com/docs/en/datasheet/20545fc.pdf; ComponentLink3Description: Package Specification; ComponentLink3URL: http://cds.linear.com/docs/en/packaging/SOT_5_05-08-1635.pdf
footprint LT-S5-5-TSOT-23_N (SOT23, 5-Leads, Body 2.90x1.63mm, Pitch 0.95mm, IPC Medium Density)
footprint LT-S5-5-TSOT-23_L (SOT23, 5-Leads, Body 2.90x1.63mm, Pitch 0.95mm, IPC High Density)
footprint LT-S5-5-TSOT-23_M (SOT23, 5-Leads, Body 2.90x1.63mm, Pitch 0.95mm, IPC Low Density)
pins: 1 OUT (out) "Output.", 2 V- (power) "Negative Supply Voltage, Usually -5V.", 3 +IN (in) "Noninverting Input.", 4 -IN (in) "Inverting Input.", 5 V+ (power) "Positive Supply Voltage, Usually 5V."

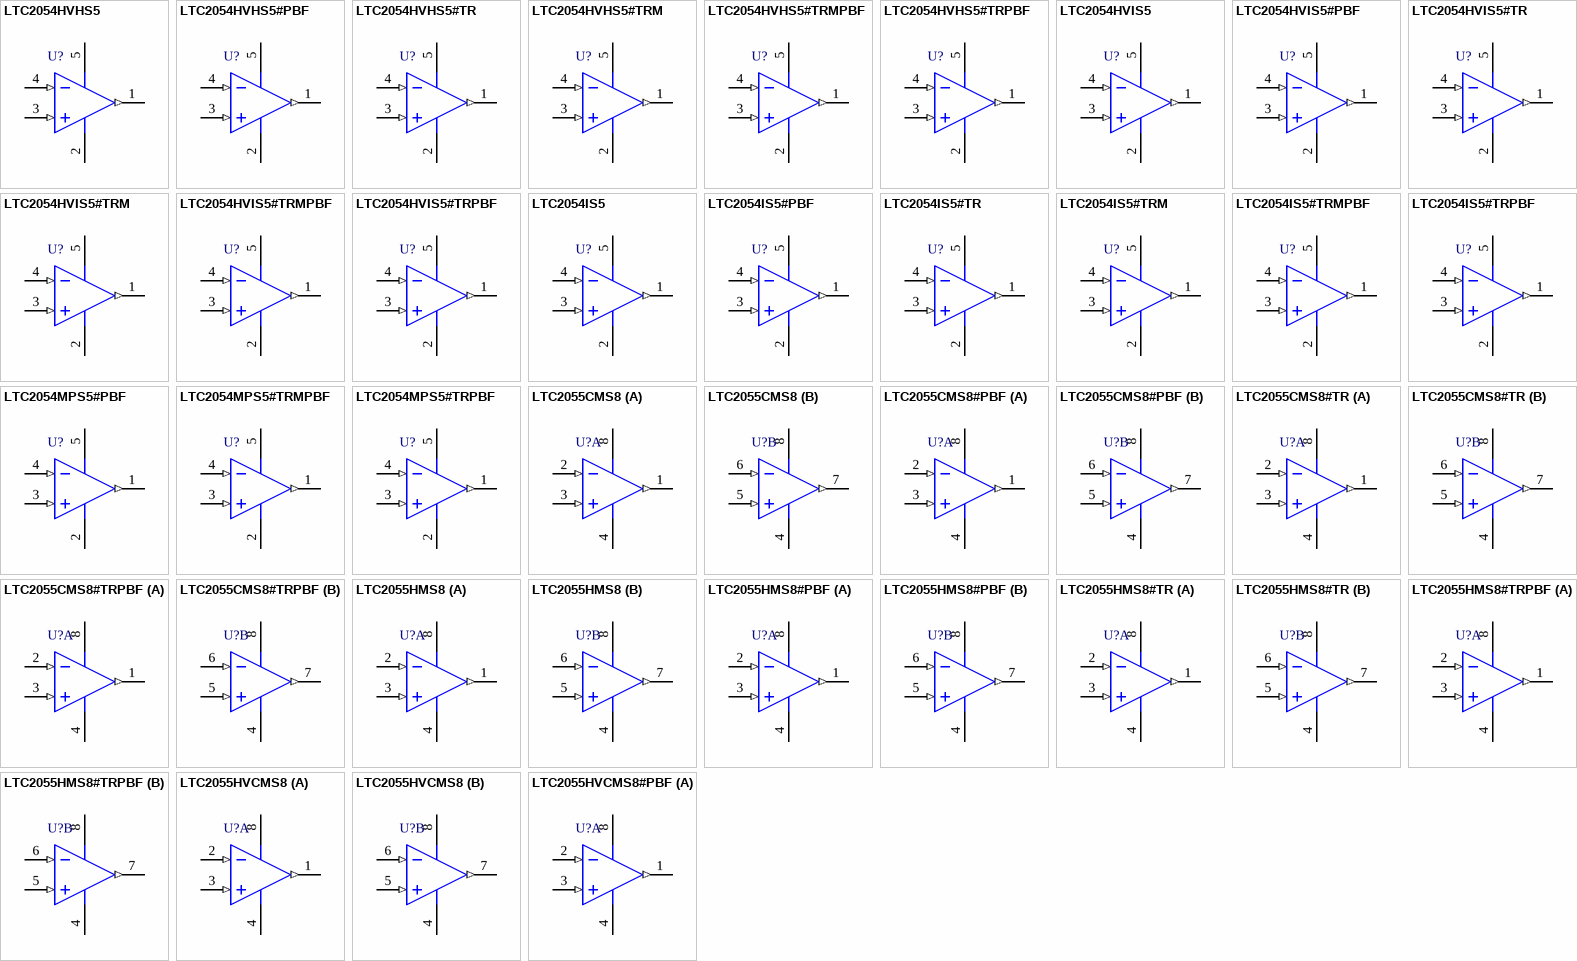
[diagram p48: symbols LTC2054HVHS5 to LTC2055HVCMS8#PBF]

## LTC2054HVHS5
designator U?
Single Channel, Micropower Zero-Drift Operational Amplifier, 0.5 MHz Typical GBW, 0.5 V/us Typical SR, 2.7 to 11 V, 5-Pin SOT23 (S5-5), High Temperature / Automotive; Linear Technology Part Number: LTC2054HV; Manufacturer: Linear Technology; PartNumber: LTC2054HVHS5; Channels (#): 1; GBW (MHz) Typical: 0.5; Is (mA) Typical: 0.15; Vos (mV) Typical: 0.0005; Vs Max (V): 11; Vs Min (V): 2.7; DatasheetVersion: Rev. C; PackageReference: LT-S5-5-TSOT-23; PackageDescription: 5-Lead Plastic TSOT-23, Body 1.63 x 2.90 mm, Pitch 0.95 mm; SR (V/us) Typical: 0.5; Type: ZD; Mounting Technology: Surface Mount; Code_JEDEC: MO-193; ComponentLink1Description: Manufacturer URL; ComponentLink1URL: http://www.linear.com/; ComponentLink2Description: Datasheet; ComponentLink2URL: http://cds.linear.com/docs/en/datasheet/20545fc.pdf; ComponentLink3Description: Package Specification; ComponentLink3URL: http://cds.linear.com/docs/en/packaging/SOT_5_05-08-1635.pdf
footprint LT-S5-5-TSOT-23_N (SOT23, 5-Leads, Body 2.90x1.63mm, Pitch 0.95mm, IPC Medium Density)
footprint LT-S5-5-TSOT-23_L (SOT23, 5-Leads, Body 2.90x1.63mm, Pitch 0.95mm, IPC High Density)
footprint LT-S5-5-TSOT-23_M (SOT23, 5-Leads, Body 2.90x1.63mm, Pitch 0.95mm, IPC Low Density)
pins: 1 OUT (out) "Output.", 2 V- (power) "Negative Supply Voltage, Usually -5V.", 3 +IN (in) "Noninverting Input.", 4 -IN (in) "Inverting Input.", 5 V+ (power) "Positive Supply Voltage, Usually 5V."

## LTC2054HVHS5#PBF
designator U?
Single Channel, Micropower Zero-Drift Operational Amplifier, 0.5 MHz Typical GBW, 0.5 V/us Typical SR, 2.7 to 11 V, 5-Pin SOT23 (S5-5), High Temperature / Automotive, Pb-Free; Linear Technology Part Number: LTC2054HV; Manufacturer: Linear Technology; PartNumber: LTC2054HVHS5#PBF; Channels (#): 1; GBW (MHz) Typical: 0.5; Is (mA) Typical: 0.15; Vos (mV) Typical: 0.0005; Vs Max (V): 11; Vs Min (V): 2.7; DatasheetVersion: Rev. C; PackageReference: LT-S5-5-TSOT-23; PackageDescription: 5-Lead Plastic TSOT-23, Body 1.63 x 2.90 mm, Pitch 0.95 mm; Supplier 1: Farnell; Supplier Part Number 1: 2294731; Supplier 2: Newark; Supplier Part Number 2: 78T2547; RoHS: Pb-Free; SR (V/us) Typical: 0.5; Type: ZD; Mounting Technology: Surface Mount; Code_JEDEC: MO-193; ComponentLink1Description: Manufacturer URL; ComponentLink1URL: http://www.linear.com/; ComponentLink2Description: Datasheet; ComponentLink2URL: http://cds.linear.com/docs/en/datasheet/20545fc.pdf; ComponentLink3Description: Package Specification; ComponentLink3URL: http://cds.linear.com/docs/en/packaging/SOT_5_05-08-1635.pdf
footprint LT-S5-5-TSOT-23_N (SOT23, 5-Leads, Body 2.90x1.63mm, Pitch 0.95mm, IPC Medium Density)
footprint LT-S5-5-TSOT-23_L (SOT23, 5-Leads, Body 2.90x1.63mm, Pitch 0.95mm, IPC High Density)
footprint LT-S5-5-TSOT-23_M (SOT23, 5-Leads, Body 2.90x1.63mm, Pitch 0.95mm, IPC Low Density)
pins: 1 OUT (out) "Output.", 2 V- (power) "Negative Supply Voltage, Usually -5V.", 3 +IN (in) "Noninverting Input.", 4 -IN (in) "Inverting Input.", 5 V+ (power) "Positive Supply Voltage, Usually 5V."

## LTC2054HVHS5#TR
designator U?
Single Channel, Micropower Zero-Drift Operational Amplifier, 0.5 MHz Typical GBW, 0.5 V/us Typical SR, 2.7 to 11 V, 5-Pin SOT23 (S5-5), High Temperature / Automotive, Reel; Linear Technology Part Number: LTC2054HV; Manufacturer: Linear Technology; PartNumber: LTC2054HVHS5#TR; Channels (#): 1; GBW (MHz) Typical: 0.5; Is (mA) Typical: 0.15; Vos (mV) Typical: 0.0005; Vs Max (V): 11; Vs Min (V): 2.7; DatasheetVersion: Rev. C; PackageReference: LT-S5-5-TSOT-23; PackageDescription: 5-Lead Plastic TSOT-23, Body 1.63 x 2.90 mm, Pitch 0.95 mm; Supplier 1: Digi-Key; Supplier Part Number 1: LTC2054HVHS5#TR-ND; Supplier 2: Newark; Supplier Part Number 2: 56M4749; Packing: Reel; SR (V/us) Typical: 0.5; Type: ZD; Mounting Technology: Surface Mount; Code_JEDEC: MO-193; ComponentLink1Description: Manufacturer URL; ComponentLink1URL: http://www.linear.com/; ComponentLink2Description: Datasheet; ComponentLink2URL: http://cds.linear.com/docs/en/datasheet/20545fc.pdf; ComponentLink3Description: Package Specification; ComponentLink3URL: http://cds.linear.com/docs/en/packaging/SOT_5_05-08-1635.pdf
footprint LT-S5-5-TSOT-23_N (SOT23, 5-Leads, Body 2.90x1.63mm, Pitch 0.95mm, IPC Medium Density)
footprint LT-S5-5-TSOT-23_L (SOT23, 5-Leads, Body 2.90x1.63mm, Pitch 0.95mm, IPC High Density)
footprint LT-S5-5-TSOT-23_M (SOT23, 5-Leads, Body 2.90x1.63mm, Pitch 0.95mm, IPC Low Density)
pins: 1 OUT (out) "Output.", 2 V- (power) "Negative Supply Voltage, Usually -5V.", 3 +IN (in) "Noninverting Input.", 4 -IN (in) "Inverting Input.", 5 V+ (power) "Positive Supply Voltage, Usually 5V."

## LTC2054HVHS5#TRM
designator U?
Single Channel, Micropower Zero-Drift Operational Amplifier, 0.5 MHz Typical GBW, 0.5 V/us Typical SR, 2.7 to 11 V, 5-Pin SOT23 (S5-5), High Temperature / Automotive, Mini Reel; Linear Technology Part Number: LTC2054HV; Manufacturer: Linear Technology; PartNumber: LTC2054HVHS5#TRM; Channels (#): 1; GBW (MHz) Typical: 0.5; Is (mA) Typical: 0.15; Vos (mV) Typical: 0.0005; Vs Max (V): 11; Vs Min (V): 2.7; DatasheetVersion: Rev. C; PackageReference: LT-S5-5-TSOT-23; PackageDescription: 5-Lead Plastic TSOT-23, Body 1.63 x 2.90 mm, Pitch 0.95 mm; Supplier 1: Digi-Key; Supplier Part Number 1: LTC2054HVHS5#TRM-ND; Packing: Mini Reel; SR (V/us) Typical: 0.5; Type: ZD; Mounting Technology: Surface Mount; Code_JEDEC: MO-193; ComponentLink1Description: Manufacturer URL; ComponentLink1URL: http://www.linear.com/; ComponentLink2Description: Datasheet; ComponentLink2URL: http://cds.linear.com/docs/en/datasheet/20545fc.pdf; ComponentLink3Description: Package Specification; ComponentLink3URL: http://cds.linear.com/docs/en/packaging/SOT_5_05-08-1635.pdf
footprint LT-S5-5-TSOT-23_N (SOT23, 5-Leads, Body 2.90x1.63mm, Pitch 0.95mm, IPC Medium Density)
footprint LT-S5-5-TSOT-23_L (SOT23, 5-Leads, Body 2.90x1.63mm, Pitch 0.95mm, IPC High Density)
footprint LT-S5-5-TSOT-23_M (SOT23, 5-Leads, Body 2.90x1.63mm, Pitch 0.95mm, IPC Low Density)
pins: 1 OUT (out) "Output.", 2 V- (power) "Negative Supply Voltage, Usually -5V.", 3 +IN (in) "Noninverting Input.", 4 -IN (in) "Inverting Input.", 5 V+ (power) "Positive Supply Voltage, Usually 5V."

## LTC2054HVHS5#TRMPBF
designator U?
Single Channel, Micropower Zero-Drift Operational Amplifier, 0.5 MHz Typical GBW, 0.5 V/us Typical SR, 2.7 to 11 V, 5-Pin SOT23 (S5-5), High Temperature / Automotive, Pb-Free, Mini Reel; Linear Technology Part Number: LTC2054HV; Manufacturer: Linear Technology; PartNumber: LTC2054HVHS5#TRMPBF; Channels (#): 1; GBW (MHz) Typical: 0.5; Is (mA) Typical: 0.15; Vos (mV) Typical: 0.0005; Vs Max (V): 11; Vs Min (V): 2.7; DatasheetVersion: Rev. C; PackageReference: LT-S5-5-TSOT-23; PackageDescription: 5-Lead Plastic TSOT-23, Body 1.63 x 2.90 mm, Pitch 0.95 mm; Supplier 1: Digi-Key; Supplier Part Number 1: LTC2054HVHS5#TRMPBF-ND; Supplier 2: Newark; Supplier Part Number 2: 56M4751; Packing: Mini Reel; RoHS: Pb-Free; SR (V/us) Typical: 0.5; Type: ZD; Mounting Technology: Surface Mount; Code_JEDEC: MO-193; ComponentLink1Description: Manufacturer URL; ComponentLink1URL: http://www.linear.com/; ComponentLink2Description: Datasheet; ComponentLink2URL: http://cds.linear.com/docs/en/datasheet/20545fc.pdf; ComponentLink3Description: Package Specification; ComponentLink3URL: http://cds.linear.com/docs/en/packaging/SOT_5_05-08-1635.pdf
footprint LT-S5-5-TSOT-23_N (SOT23, 5-Leads, Body 2.90x1.63mm, Pitch 0.95mm, IPC Medium Density)
footprint LT-S5-5-TSOT-23_L (SOT23, 5-Leads, Body 2.90x1.63mm, Pitch 0.95mm, IPC High Density)
footprint LT-S5-5-TSOT-23_M (SOT23, 5-Leads, Body 2.90x1.63mm, Pitch 0.95mm, IPC Low Density)
pins: 1 OUT (out) "Output.", 2 V- (power) "Negative Supply Voltage, Usually -5V.", 3 +IN (in) "Noninverting Input.", 4 -IN (in) "Inverting Input.", 5 V+ (power) "Positive Supply Voltage, Usually 5V."

## LTC2054HVHS5#TRPBF
designator U?
Single Channel, Micropower Zero-Drift Operational Amplifier, 0.5 MHz Typical GBW, 0.5 V/us Typical SR, 2.7 to 11 V, 5-Pin SOT23 (S5-5), High Temperature / Automotive, Pb-Free, Reel; Linear Technology Part Number: LTC2054HV; Manufacturer: Linear Technology; PartNumber: LTC2054HVHS5#TRPBF; Channels (#): 1; GBW (MHz) Typical: 0.5; Is (mA) Typical: 0.15; Vos (mV) Typical: 0.0005; Vs Max (V): 11; Vs Min (V): 2.7; DatasheetVersion: Rev. C; PackageReference: LT-S5-5-TSOT-23; PackageDescription: 5-Lead Plastic TSOT-23, Body 1.63 x 2.90 mm, Pitch 0.95 mm; Supplier 1: Digi-Key; Supplier Part Number 1: LTC2054HVHS5#TRPBF-ND; Supplier 2: Newark; Supplier Part Number 2: 56M4752; Packing: Reel; RoHS: Pb-Free; SR (V/us) Typical: 0.5; Type: ZD; Mounting Technology: Surface Mount; Code_JEDEC: MO-193; ComponentLink1Description: Manufacturer URL; ComponentLink1URL: http://www.linear.com/; ComponentLink2Description: Datasheet; ComponentLink2URL: http://cds.linear.com/docs/en/datasheet/20545fc.pdf; ComponentLink3Description: Package Specification; ComponentLink3URL: http://cds.linear.com/docs/en/packaging/SOT_5_05-08-1635.pdf
footprint LT-S5-5-TSOT-23_N (SOT23, 5-Leads, Body 2.90x1.63mm, Pitch 0.95mm, IPC Medium Density)
footprint LT-S5-5-TSOT-23_L (SOT23, 5-Leads, Body 2.90x1.63mm, Pitch 0.95mm, IPC High Density)
footprint LT-S5-5-TSOT-23_M (SOT23, 5-Leads, Body 2.90x1.63mm, Pitch 0.95mm, IPC Low Density)
pins: 1 OUT (out) "Output.", 2 V- (power) "Negative Supply Voltage, Usually -5V.", 3 +IN (in) "Noninverting Input.", 4 -IN (in) "Inverting Input.", 5 V+ (power) "Positive Supply Voltage, Usually 5V."

## LTC2054HVIS5
designator U?
Single Channel, Micropower Zero-Drift Operational Amplifier, 0.5 MHz Typical GBW, 0.5 V/us Typical SR, 2.7 to 11 V, 5-Pin SOT23 (S5-5), High Temperature / Automotive; Linear Technology Part Number: LTC2054HV; Manufacturer: Linear Technology; PartNumber: LTC2054HVIS5; Channels (#): 1; GBW (MHz) Typical: 0.5; Is (mA) Typical: 0.15; Vos (mV) Typical: 0.0005; Vs Max (V): 11; Vs Min (V): 2.7; DatasheetVersion: Rev. C; PackageReference: LT-S5-5-TSOT-23; PackageDescription: 5-Lead Plastic TSOT-23, Body 1.63 x 2.90 mm, Pitch 0.95 mm; SR (V/us) Typical: 0.5; Type: ZD; Mounting Technology: Surface Mount; Code_JEDEC: MO-193; ComponentLink1Description: Manufacturer URL; ComponentLink1URL: http://www.linear.com/; ComponentLink2Description: Datasheet; ComponentLink2URL: http://cds.linear.com/docs/en/datasheet/20545fc.pdf; ComponentLink3Description: Package Specification; ComponentLink3URL: http://cds.linear.com/docs/en/packaging/SOT_5_05-08-1635.pdf
footprint LT-S5-5-TSOT-23_N (SOT23, 5-Leads, Body 2.90x1.63mm, Pitch 0.95mm, IPC Medium Density)
footprint LT-S5-5-TSOT-23_L (SOT23, 5-Leads, Body 2.90x1.63mm, Pitch 0.95mm, IPC High Density)
footprint LT-S5-5-TSOT-23_M (SOT23, 5-Leads, Body 2.90x1.63mm, Pitch 0.95mm, IPC Low Density)
pins: 1 OUT (out) "Output.", 2 V- (power) "Negative Supply Voltage, Usually -5V.", 3 +IN (in) "Noninverting Input.", 4 -IN (in) "Inverting Input.", 5 V+ (power) "Positive Supply Voltage, Usually 5V."

## LTC2054HVIS5#PBF
designator U?
Single Channel, Micropower Zero-Drift Operational Amplifier, 0.5 MHz Typical GBW, 0.5 V/us Typical SR, 2.7 to 11 V, 5-Pin SOT23 (S5-5), High Temperature / Automotive, Pb-Free; Linear Technology Part Number: LTC2054HV; Manufacturer: Linear Technology; PartNumber: LTC2054HVIS5#PBF; Channels (#): 1; GBW (MHz) Typical: 0.5; Is (mA) Typical: 0.15; Vos (mV) Typical: 0.0005; Vs Max (V): 11; Vs Min (V): 2.7; DatasheetVersion: Rev. C; PackageReference: LT-S5-5-TSOT-23; PackageDescription: 5-Lead Plastic TSOT-23, Body 1.63 x 2.90 mm, Pitch 0.95 mm; Supplier 1: Newark; Supplier Part Number 1: 78T2548; RoHS: Pb-Free; SR (V/us) Typical: 0.5; Type: ZD; Mounting Technology: Surface Mount; Code_JEDEC: MO-193; ComponentLink1Description: Manufacturer URL; ComponentLink1URL: http://www.linear.com/; ComponentLink2Description: Datasheet; ComponentLink2URL: http://cds.linear.com/docs/en/datasheet/20545fc.pdf; ComponentLink3Description: Package Specification; ComponentLink3URL: http://cds.linear.com/docs/en/packaging/SOT_5_05-08-1635.pdf
footprint LT-S5-5-TSOT-23_N (SOT23, 5-Leads, Body 2.90x1.63mm, Pitch 0.95mm, IPC Medium Density)
footprint LT-S5-5-TSOT-23_L (SOT23, 5-Leads, Body 2.90x1.63mm, Pitch 0.95mm, IPC High Density)
footprint LT-S5-5-TSOT-23_M (SOT23, 5-Leads, Body 2.90x1.63mm, Pitch 0.95mm, IPC Low Density)
pins: 1 OUT (out) "Output.", 2 V- (power) "Negative Supply Voltage, Usually -5V.", 3 +IN (in) "Noninverting Input.", 4 -IN (in) "Inverting Input.", 5 V+ (power) "Positive Supply Voltage, Usually 5V."